# Altium footprint library IC_SMD_QUAD.PCBLIB: 135 footprints (part 7 of 9)
Each footprint in its own frame and in the unit in brackets; x right, y up, seen from the top. Pads: shape width x height; smd on the part's side, far side on the other; paste and mask are expansions set on the pad; w line width, h text height; cw(c..) or ccw(c..) is an arc to the next point about the centre after c.
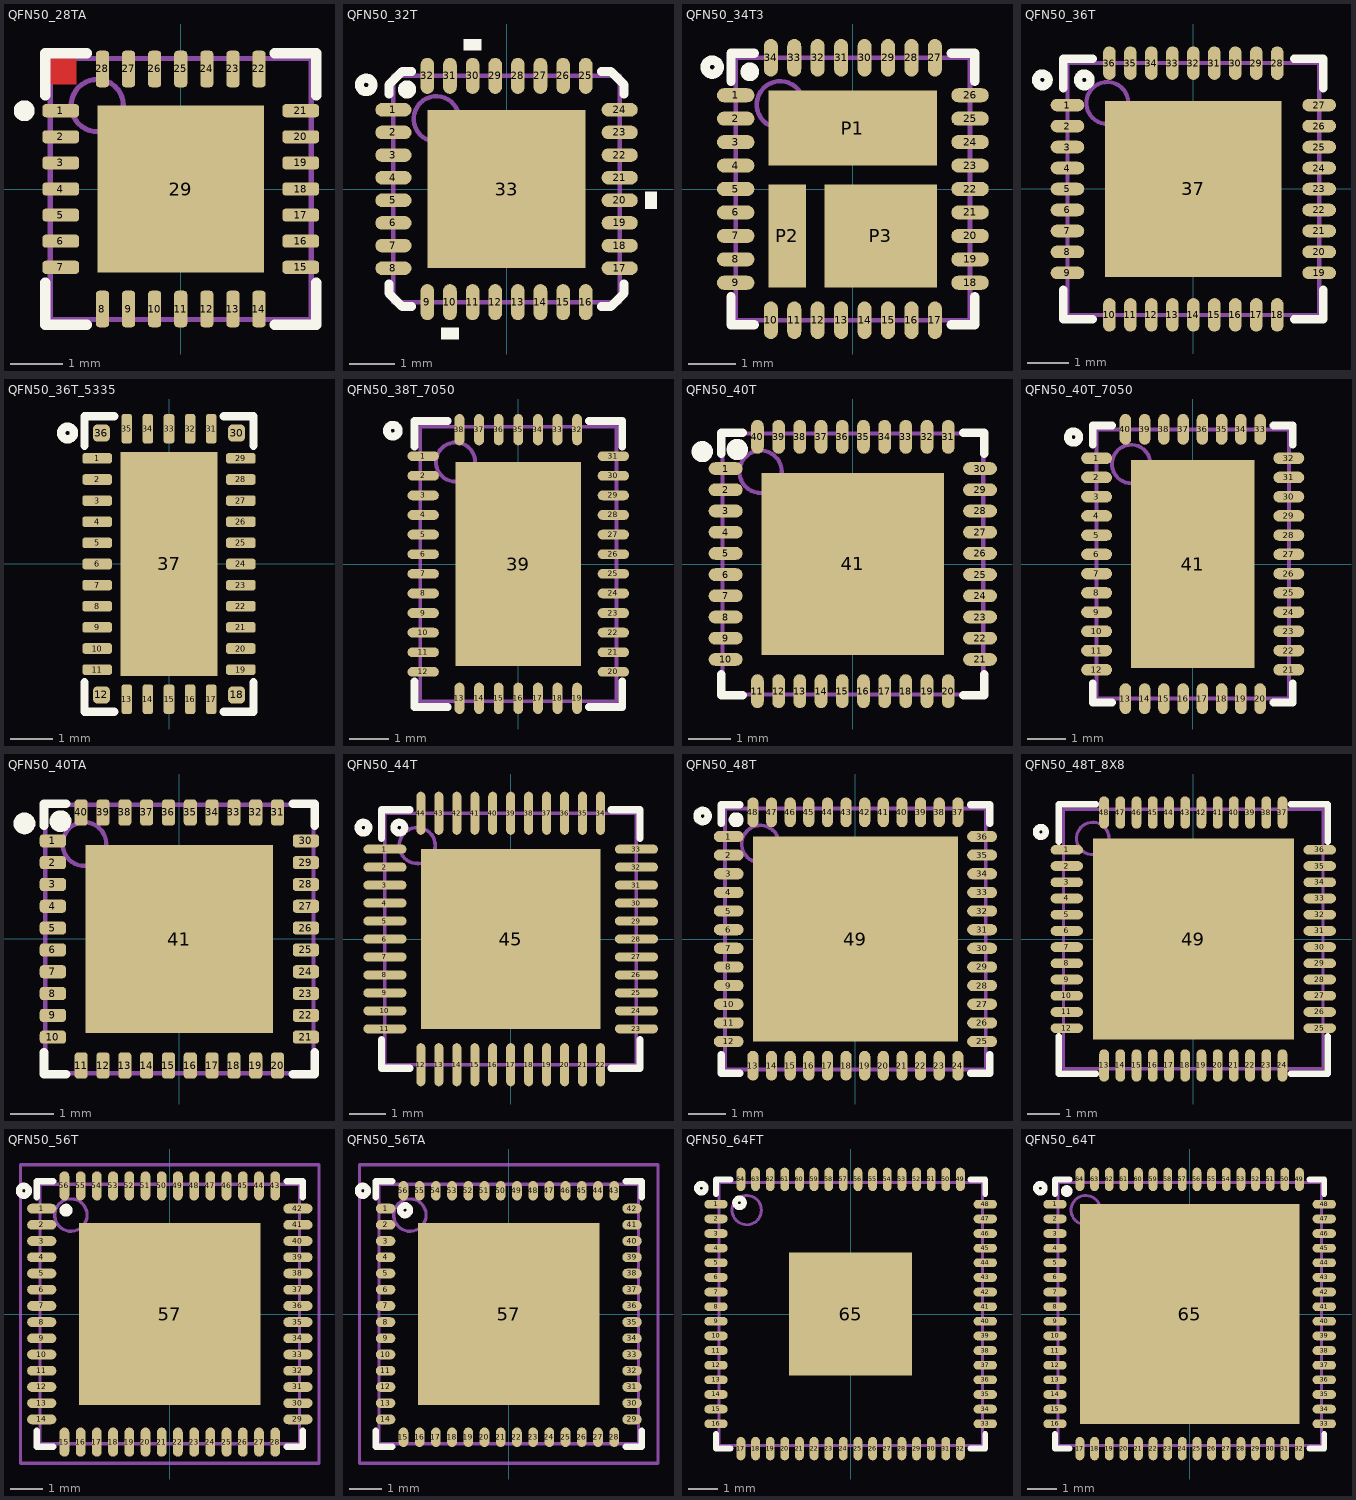
[diagram p6: the footprints below, top view; thin cyan lines are the x and y axes]

## QFN50_28TA [mm] "QFN, 28, 5X5mm, 0.5mm"
height 1
pads (29):
  rrect50% 0.7x0.25 smd mask+0.075: 1(-2.3,1.5) 2(-2.3,1) 3(-2.3,0.5) 4(-2.3,0) 5(-2.3,-0.5) 6(-2.3,-1) 7(-2.3,-1.5) 15(2.3,-1.5) 16(2.3,-1) 17(2.3,-0.5) 18(2.3,0) 19(2.3,0.5) 20(2.3,1) 21(2.3,1.5)
  rrect50% 0.25x0.7 smd mask+0.075: 8(-1.5,-2.3) 9(-1,-2.3) 10(-0.5,-2.3) 11(0,-2.3) 12(0.5,-2.3) 13(1,-2.3) 14(1.5,-2.3) 22(1.5,2.3) 23(1,2.3) 24(0.5,2.3) 25(0,2.3) 26(-0.5,2.3) 27(-1,2.3) 28(-1.5,2.3)
  rect 3.2x3.2 smd paste-3 mask+0.075: 29(0,0)
TopLayer:
  rectangle: -2.5,2 -2,2.5
TopOverlay:
  circle w0.2: c-3,1.5 r0.1
  lines w0.2: -2.6,-1.8 -2.6,-2.6 -1.8,-2.6 ; -2.6,1.8 -2.6,2.6 -1.8,2.6 ; 1.8,-2.6 2.6,-2.6 2.6,-1.8 ; 1.8,2.6 2.6,2.6 2.6,1.8
TopPaste:
  region: 1.4,-0.2 0.2,-0.2 0.2,-1.4 1.4,-1.4
  rectangle: -1.4,-1.4 -0.2,-0.2
  region: 1.4,1.4 0.2,1.4 0.2,0.2 1.4,0.2
  rectangle: -1.4,0.2 -0.2,1.4
Mechanical13:
  circle w0.1: c-1.6,1.6 r0.5
  lines w0.1: -2.5,-2.5 2.5,-2.5 2.5,2.5 -2.5,2.5 -2.5,-2.5
3D body "QFN50_28TT.step": height 1, standoff 0, extent -2.501,-2.501 2.501,2.501

## QFN50_32T [mm] "HVQFN32, UFQFPN32, QFN-32, RGJ, 5X5X0.9mm, 0.5mm"
height 0.9
pads (33):
  oval 0.8x0.3 smd mask+0.05: 1(-2.5,1.75) 2(-2.5,1.25) 3(-2.5,0.75) 4(-2.5,0.25) 5(-2.5,-0.25) 6(-2.5,-0.75) 7(-2.5,-1.25) 8(-2.5,-1.75) 17(2.5,-1.75) 18(2.5,-1.25) 19(2.5,-0.75) 20(2.5,-0.25) 21(2.5,0.25) 22(2.5,0.75) 23(2.5,1.25) 24(2.5,1.75)
  oval 0.3x0.8 smd mask+0.05: 9(-1.75,-2.5) 10(-1.25,-2.5) 11(-0.75,-2.5) 12(-0.25,-2.5) 13(0.25,-2.5) 14(0.75,-2.5) 15(1.25,-2.5) 16(1.75,-2.5) 25(1.75,2.5) 26(1.25,2.5) 27(0.75,2.5) 28(0.25,2.5) 29(-0.25,2.5) 30(-0.75,2.5) 31(-1.25,2.5) 32(-1.75,2.5)
  rect 3.5x3.5 smd paste-3 mask+0.1: 33(0,0)
TopOverlay:
  circle w0.2: c-2.2,2.2 r0.1
  circle w0.2: c-3.1,2.3 r0.15
  region: -0.56,3.061 -0.941,3.061 -0.941,3.315 -0.56,3.315
  region: 3.061,-0.059 3.315,-0.059 3.315,-0.44 3.061,-0.44
  region: -1.06,-3.061 -1.441,-3.061 -1.441,-3.315 -1.06,-3.315
  lines w0.2: -2.6,-2.1 -2.6,-2.3 -2.3,-2.6 -2.1,-2.6 ; -2.6,2.1 -2.6,2.3 -2.3,2.6 -2.1,2.6 ; 2.1,-2.6 2.3,-2.6 2.6,-2.3 2.6,-2.1 ; 2.1,2.6 2.3,2.6 2.6,2.3 2.6,2.1
TopPaste:
  rectangle: -1.6,-1.6 -0.2,-0.2
  region: 1.6,-0.2 0.2,-0.2 0.2,-1.6 1.6,-1.6
  region: 1.6,1.6 0.2,1.6 0.2,0.2 1.6,0.2
  rectangle: -1.6,0.2 -0.2,1.6
Mechanical13:
  circle w0.1: c-1.55,1.55 r0.5
  lines w0.1: -2.5,-2.5 2.5,-2.5 2.5,2.5 -2.5,2.5 -2.5,-2.5
3D body "RTV0032A.stp": height 0.8, standoff 0, extent -2.5,-2.5 2.5,2.5

## QFN50_34T3 [mm] "TinyBuck (FAIRCHILD), 34-Lead, PQFN, 5.5 mm x 5.0 mm"
height 1.1
pads (37):
  oval 0.8x0.3 smd mask+0.05: 1(-2.5,2) 2(-2.5,1.5) 3(-2.5,1) 4(-2.5,0.5) 5(-2.5,0) 6(-2.5,-0.5) 7(-2.5,-1) 8(-2.5,-1.5) 9(-2.5,-2) 18(2.5,-2) 19(2.5,-1.5) 20(2.5,-1) 21(2.5,-0.5) 22(2.5,0) 23(2.5,0.5) 24(2.5,1) 25(2.5,1.5) 26(2.5,2)
  oval 0.3x0.8 smd mask+0.05: 10(-1.75,-2.8) 11(-1.25,-2.8) 12(-0.75,-2.8) 13(-0.25,-2.8) 14(0.25,-2.8) 15(0.75,-2.8) 16(1.25,-2.8) 17(1.75,-2.8) 27(1.75,2.8) 28(1.25,2.8) 29(0.75,2.8) 30(0.25,2.8) 31(-0.25,2.8) 32(-0.75,2.8) 33(-1.25,2.8) 34(-1.75,2.8)
  rect 3.6x1.6 smd paste-3: P1(0,1.3)
  rect 0.8x2.2 smd paste-0.1: P2(-1.4,-1)
  rect 2.4x2.2 smd paste-3: P3(0.6,-1)
TopOverlay:
  circle w0.2: c-3,2.6 r0.15
  circle w0.2: c-2.2,2.5 r0.1
  lines w0.2: -2.6,-2.3 -2.6,-2.9 -2.1,-2.9 ; -2.6,2.3 -2.6,2.9 -2.1,2.9 ; 2.1,-2.9 2.6,-2.9 2.6,-2.3 ; 2.1,2.9 2.6,2.9 2.6,2.3
TopPaste:
  rectangle: -1.6,0.7 -0.2,1.9
  rectangle: 0.2,0.7 1.6,1.9
  rectangle: -0.4,-0.9 0.4,-0.1
  rectangle: 0.8,-0.9 1.6,-0.1
  region: 0.8,-1.1 0.8,-1.9 1.6,-1.9 1.6,-1.1
  region: -0.4,-1.1 -0.4,-1.9 0.4,-1.9 0.4,-1.1
Mechanical13:
  circle w0.1: c-1.55,1.8 r0.5
  lines w0.1: -2.5,-2.8 2.5,-2.8 2.5,2.8 -2.5,2.8 -2.5,-2.8
3D body: height 1.1, standoff 0, extent -2.5,-2.75 2.5,2.8

## QFN50_36T [mm] "MO-220-VJJD (JEDEC), 36 TQFN T3666+3 (MAXIM), 6X6mm, 0.5mm"
height 0.9
pads (37):
  oval 0.8x0.3 smd mask+0.05: 1(-3,2) 2(-3,1.5) 3(-3,1) 4(-3,0.5) 5(-3,0) 6(-3,-0.5) 7(-3,-1) 8(-3,-1.5) 9(-3,-2) 19(3,-2) 20(3,-1.5) 21(3,-1) 22(3,-0.5) 23(3,0) 24(3,0.5) 25(3,1) 26(3,1.5) 27(3,2)
  oval 0.3x0.8 smd mask+0.05: 10(-2,-3) 11(-1.5,-3) 12(-1,-3) 13(-0.5,-3) 14(0,-3) 15(0.5,-3) 16(1,-3) 17(1.5,-3) 18(2,-3) 28(2,3) 29(1.5,3) 30(1,3) 31(0.5,3) 32(0,3) 33(-0.5,3) 34(-1,3) 35(-1.5,3) 36(-2,3)
  rect 4.2x4.2 smd paste-3 mask+0.1: 37(0,0)
TopOverlay:
  circle w0.2: c-2.6,2.6 r0.15
  circle w0.2: c-3.6,2.6 r0.15
  lines w0.2: -3.1,-2.4 -3.1,-3.1 -2.4,-3.1 ; -3.1,2.4 -3.1,3.1 -2.4,3.1 ; 2.4,-3.1 3.1,-3.1 3.1,-2.4 ; 2.4,3.1 3.1,3.1 3.1,2.4
TopPaste:
  rectangle: -1,-1 -0.2,-0.2
  rectangle: -2,-2 -1.2,-1.2
  region: -0.2,-1.2 -1,-1.2 -1,-2 -0.2,-2
  rectangle: -2,-1 -1.2,-0.2
  region: 2,-0.2 1.2,-0.2 1.2,-1 2,-1
  rectangle: 0.2,-2 1,-1.2
  region: 2,-1.2 1.2,-1.2 1.2,-2 2,-2
  region: 1,-0.2 0.2,-0.2 0.2,-1 1,-1
  region: 1,1 0.2,1 0.2,0.2 1,0.2
  region: 2,2 1.2,2 1.2,1.2 2,1.2
  rectangle: 0.2,1.2 1,2
  region: 2,1 1.2,1 1.2,0.2 2,0.2
  rectangle: -2,0.2 -1.2,1
  region: -0.2,2 -1,2 -1,1.2 -0.2,1.2
  rectangle: -2,1.2 -1.2,2
  rectangle: -1,0.2 -0.2,1
Mechanical13:
  circle w0.1: c-2.05,2.05 r0.5
  lines w0.1: -3,-3 3,-3 3,3 -3,3 -3,-3
3D body: height 0.9, standoff 0, extent -3,-3 3,3

## QFN50_36T_5335 [mm] "QFN 36, 0.5mm pitch, 5.3X3.5X0.95mm"
height 0.95
pads (37):
  rrect50% 0.7x0.25 smd mask+0.05: 1(-1.7,2.5) 2(-1.7,2) 3(-1.7,1.5) 4(-1.7,1) 5(-1.7,0.5) 6(-1.7,0) 7(-1.7,-0.5) 8(-1.7,-1) 9(-1.7,-1.5) 10(-1.7,-2) 11(-1.7,-2.5) 19(1.7,-2.5) 20(1.7,-2) 21(1.7,-1.5) 22(1.7,-1) 23(1.7,-0.5) 24(1.7,0) 25(1.7,0.5) 26(1.7,1) 27(1.7,1.5) 28(1.7,2) 29(1.7,2.5)
  rrect50% 0.4x0.4 smd mask+0.05: 12(-1.6,-3.1) 18(1.6,-3.1) 30(1.6,3.1) 36(-1.6,3.1)
  rrect50% 0.25x0.7 smd mask+0.05: 13(-1,-3.2) 14(-0.5,-3.2) 15(0,-3.2) 16(0.5,-3.2) 17(1,-3.2) 31(1,3.2) 32(0.5,3.2) 33(0,3.2) 34(-0.5,3.2) 35(-1,3.2)
  rect 2.3x5.3 smd paste-5 mask+0.05: 37(0,0)
TopOverlay:
  circle w0.2: c-2.4,3.1 r0.15
  lines w0.2: -2,-2.8 -2,-3.5 -1.3,-3.5 ; -2,2.8 -2,3.5 -1.3,3.5 ; 1.3,-3.5 2,-3.5 2,-2.8 ; 1.3,3.5 2,3.5 2,2.8
TopPaste:
  rectangle: -1,0.2 -0.2,1.3
  rectangle: -1,1.7 -0.2,2.5
  region: 1,1.3 0.2,1.3 0.2,0.2 1,0.2
  rectangle: 0.2,1.7 1,2.5
  rectangle: 0.2,-2.5 1,-1.7
  region: 1,-0.2 0.2,-0.2 0.2,-1.3 1,-1.3
  rectangle: -1,-2.5 -0.2,-1.7
  rectangle: -1,-1.3 -0.2,-0.2
3D body "QFN50_36T_5335.step": height 0.95, standoff 0, extent -1.8,-3.3 1.8,3.3

## QFN50_38T_7050 [mm] "UHF QFN, 38-Leads, Body 5.00x7.00mm, Pitch 0.50mm"
height 0.75
pads (39):
  oval 0.8x0.25 smd mask+0.05: 1(-2.425,2.75) 2(-2.425,2.25) 3(-2.425,1.75) 4(-2.425,1.25) 5(-2.425,0.75) 6(-2.425,0.25) 7(-2.425,-0.25) 8(-2.425,-0.75) 9(-2.425,-1.25) 10(-2.425,-1.75) 11(-2.425,-2.25) 12(-2.425,-2.75) 20(2.425,-2.75) 21(2.425,-2.25) 22(2.425,-1.75) 23(2.425,-1.25) 24(2.425,-0.75) 25(2.425,-0.25) 26(2.425,0.25) 27(2.425,0.75) 28(2.425,1.25) 29(2.425,1.75) 30(2.425,2.25) 31(2.425,2.75)
  oval 0.25x0.8 smd mask+0.05: 13(-1.5,-3.425) 14(-1,-3.425) 15(-0.5,-3.425) 16(0,-3.425) 17(0.5,-3.425) 18(1,-3.425) 19(1.5,-3.425) 32(1.5,3.425) 33(1,3.425) 34(0.5,3.425) 35(0,3.425) 36(-0.5,3.425) 37(-1,3.425) 38(-1.5,3.425)
  rect 3.2x5.2 smd mask+0.075: 39(0,0)
TopOverlay:
  circle w0.2: c-3.2,3.4 r0.15
  lines w0.2: -2.65,-3 -2.65,-3.65 -1.8,-3.65 ; -2.65,3 -2.65,3.65 -1.8,3.65 ; 1.8,-3.65 2.65,-3.65 2.65,-3 ; 1.8,3.65 2.65,3.65 2.65,3
Mechanical13:
  circle w0.1: c-1.6,2.6 r0.5
  lines w0.1: -2.5,-3.5 -2.5,3.5 2.5,3.5 2.5,-3.5 -2.5,-3.5
3D body "QFN50_38T_7X5.step": height 0.75, standoff 0, extent -2.501,-3.501 2.501,3.501

## QFN50_40T [mm] "PVQFN, QFN, 40-Leads, Body 6x6mm, Pitch 0.5mm"
height 1
pads (41):
  oval 0.8x0.3 smd mask+0.05: 1(-3,2.25) 2(-3,1.75) 3(-3,1.25) 4(-3,0.75) 5(-3,0.25) 6(-3,-0.25) 7(-3,-0.75) 8(-3,-1.25) 9(-3,-1.75) 10(-3,-2.25) 21(3,-2.25) 22(3,-1.75) 23(3,-1.25) 24(3,-0.75) 25(3,-0.25) 26(3,0.25) 27(3,0.75) 28(3,1.25) 29(3,1.75) 30(3,2.25)
  oval 0.3x0.8 smd mask+0.05: 11(-2.25,-3) 12(-1.75,-3) 13(-1.25,-3) 14(-0.75,-3) 15(-0.25,-3) 16(0.25,-3) 17(0.75,-3) 18(1.25,-3) 19(1.75,-3) 20(2.25,-3) 31(2.25,3) 32(1.75,3) 33(1.25,3) 34(0.75,3) 35(0.25,3) 36(-0.25,3) 37(-0.75,3) 38(-1.25,3) 39(-1.75,3) 40(-2.25,3)
  rect 4.3x4.3 smd paste-5: 41(0,0)
TopOverlay:
  circle w0.25: c-3.55,2.65 r0.125
  circle w0.25: c-2.725,2.7 r0.125
  lines w0.2: -3.1,-2.6 -3.1,-3.1 -2.6,-3.1 ; -3.1,2.6 -3.1,3.1 -2.6,3.1 ; 2.6,-3.1 3.1,-3.1 3.1,-2.6 ; 2.6,3.1 3.1,3.1 3.1,2.6
TopPaste:
  rectangle: -2,-2 -0.2,-0.2
  region: 2,-0.2 0.2,-0.2 0.2,-2 2,-2
  region: 2,2 0.2,2 0.2,0.2 2,0.2
  rectangle: -2,0.2 -0.2,2
Mechanical13:
  circle w0.1: c-2.175,2.175 r0.5
  lines w0.1: -3.075,-3.075 3.075,-3.075 3.075,3.075 -3.075,3.075 -3.075,-3.075
Mechanical15:
  lines w0.1: -0.5,0 0.5,0 ; 0,-0.5 0,0.5
3D body "ALSRobot-QFN40 6X6.STEP": height 1.03, standoff -0.02, extent -3.075,-3.075 3.075,3.075

## QFN50_40T_7050 [mm] "RVF0040, LGFN-CLIP, 7.0X5.0X1.5mm, 0.5mm pitch"
height 1.5
pads (41):
  oval 0.8x0.3 smd mask+0.075: 1(-2.5,2.75) 2(-2.5,2.25) 3(-2.5,1.75) 4(-2.5,1.25) 5(-2.5,0.75) 6(-2.5,0.25) 7(-2.5,-0.25) 8(-2.5,-0.75) 9(-2.5,-1.25) 10(-2.5,-1.75) 11(-2.5,-2.25) 12(-2.5,-2.75) 21(2.5,-2.75) 22(2.5,-2.25) 23(2.5,-1.75) 24(2.5,-1.25) 25(2.5,-0.75) 26(2.5,-0.25) 27(2.5,0.25) 28(2.5,0.75) 29(2.5,1.25) 30(2.5,1.75) 31(2.5,2.25) 32(2.5,2.75)
  oval 0.3x0.8 smd mask+0.075: 13(-1.75,-3.5) 14(-1.25,-3.5) 15(-0.75,-3.5) 16(-0.25,-3.5) 17(0.25,-3.5) 18(0.75,-3.5) 19(1.25,-3.5) 20(1.75,-3.5) 33(1.75,3.5) 34(1.25,3.5) 35(0.75,3.5) 36(0.25,3.5) 37(-0.25,3.5) 38(-0.75,3.5) 39(-1.25,3.5) 40(-1.75,3.5)
  rect 3.2x5.4 smd paste-5: 41(0,0)
TopOverlay:
  circle w0.2: c-3.1,3.3 r0.15
  lines w0.2: -2.6,-3.1 -2.6,-3.6 -2.1,-3.6 ; -2.6,3.1 -2.6,3.6 -2.1,3.6 ; 2.1,-3.6 2.6,-3.6 2.6,-3.1 ; 2.1,3.6 2.6,3.6 2.6,3.1
TopPaste:
  rectangle: -1.4,0.2 -0.2,1.2
  rectangle: -1.4,1.5 -0.2,2.5
  region: 1.4,2.5 0.2,2.5 0.2,1.5 1.4,1.5
  region: 1.4,1.2 0.2,1.2 0.2,0.2 1.4,0.2
  region: 1.4,-0.2 0.2,-0.2 0.2,-1.2 1.4,-1.2
  region: 1.4,-1.5 0.2,-1.5 0.2,-2.5 1.4,-2.5
  rectangle: -1.4,-2.5 -0.2,-1.5
  rectangle: -1.4,-1.2 -0.2,-0.2
Mechanical13:
  circle w0.1: c-1.6,2.6 r0.5
  lines w0.1: -2.5,-3.5 -2.5,3.5 2.5,3.5 2.5,-3.5 -2.5,-3.5
3D body "QFN50_40T_7050.step": height 1.5, standoff 0, extent -2.501,-3.501 2.501,3.501

## QFN50_40TA [mm] "PVQFN, QFN, 40-Leads, Body 6x6mm, Pitch 0.5mm"
height 1
pads (41):
  rrect50% 0.6x0.3 smd mask+0.05: 1(-2.9,2.25) 2(-2.9,1.75) 3(-2.9,1.25) 4(-2.9,0.75) 5(-2.9,0.25) 6(-2.9,-0.25) 7(-2.9,-0.75) 8(-2.9,-1.25) 9(-2.9,-1.75) 10(-2.9,-2.25) 21(2.9,-2.25) 22(2.9,-1.75) 23(2.9,-1.25) 24(2.9,-0.75) 25(2.9,-0.25) 26(2.9,0.25) 27(2.9,0.75) 28(2.9,1.25) 29(2.9,1.75) 30(2.9,2.25)
  rrect50% 0.3x0.6 smd mask+0.05: 11(-2.25,-2.9) 12(-1.75,-2.9) 13(-1.25,-2.9) 14(-0.75,-2.9) 15(-0.25,-2.9) 16(0.25,-2.9) 17(0.75,-2.9) 18(1.25,-2.9) 19(1.75,-2.9) 20(2.25,-2.9) 31(2.25,2.9) 32(1.75,2.9) 33(1.25,2.9) 34(0.75,2.9) 35(0.25,2.9) 36(-0.25,2.9) 37(-0.75,2.9) 38(-1.25,2.9) 39(-1.75,2.9) 40(-2.25,2.9)
  rect 4.3x4.3 smd paste-3: 41(0,0)
TopOverlay:
  circle w0.25: c-3.55,2.65 r0.125
  circle w0.25: c-2.725,2.7 r0.125
  lines w0.2: -3.1,-2.6 -3.1,-3.1 -2.6,-3.1 ; -3.1,2.6 -3.1,3.1 -2.6,3.1 ; 2.6,-3.1 3.1,-3.1 3.1,-2.6 ; 2.6,3.1 3.1,3.1 3.1,2.6
TopPaste:
  rectangle: -2,0.2 -0.2,2
  region: 2,2 0.2,2 0.2,0.2 2,0.2
  rectangle: -2,-2 -0.2,-0.2
  region: 2,-0.2 0.2,-0.2 0.2,-2 2,-2
Mechanical13:
  circle w0.1: c-2.175,2.175 r0.5
  lines w0.1: -3.075,-3.075 -3.075,3.075 3.075,3.075 3.075,-3.075 -3.075,-3.075
Mechanical15:
  lines w0.1: -0.5,0 0.5,0 ; 0,-0.5 0,0.5
3D body "ALSRobot-QFN40 6X6.STEP": height 1.03, standoff -0.02, extent -3.075,-3.075 3.075,3.075

## QFN50_44T [mm] "QFN-44, 44ML, pitch:0.5mm, 7x7x1mm"
height 1
pads (45):
  oval 1.2x0.25 smd mask+0.05: 1(-3.5,2.5) 2(-3.5,2) 3(-3.5,1.5) 4(-3.5,1) 5(-3.5,0.5) 6(-3.5,0) 7(-3.5,-0.5) 8(-3.5,-1) 9(-3.5,-1.5) 10(-3.5,-2) 11(-3.5,-2.5) 23(3.5,-2.5) 24(3.5,-2) 25(3.5,-1.5) 26(3.5,-1) 27(3.5,-0.5) 28(3.5,0) 29(3.5,0.5) 30(3.5,1) 31(3.5,1.5) 32(3.5,2) 33(3.5,2.5)
  oval 0.25x1.2 smd mask+0.05: 12(-2.5,-3.5) 13(-2,-3.5) 14(-1.5,-3.5) 15(-1,-3.5) 16(-0.5,-3.5) 17(0,-3.5) 18(0.5,-3.5) 19(1,-3.5) 20(1.5,-3.5) 21(2,-3.5) 22(2.5,-3.5) 34(2.5,3.5) 35(2,3.5) 36(1.5,3.5) 37(1,3.5) 38(0.5,3.5) 39(0,3.5) 40(-0.5,3.5) 41(-1,3.5) 42(-1.5,3.5) 43(-2,3.5) 44(-2.5,3.5)
  rect 5x5 smd paste-5: 45(0,0)
TopOverlay:
  circle w0.2: c-3.1,3.1 r0.15
  circle w0.2: c-4.1,3.1 r0.15
  lines w0.2: -3.6,-2.8 -3.6,-3.6 -2.8,-3.6 ; -3.6,2.8 -3.6,3.6 -2.8,3.6 ; 2.8,-3.6 3.6,-3.6 3.6,-2.8 ; 2.8,3.6 3.6,3.6 3.6,2.8
TopPaste:
  rectangle: -1.2,-1.2 -0.2,-0.2
  rectangle: -2.4,-2.4 -1.4,-1.4
  region: -2.4,-0.2 -2.4,-1.2 -1.4,-1.2 -1.4,-0.2
  region: -1.2,-1.4 -1.2,-2.4 -0.2,-2.4 -0.2,-1.4
  region: 0.2,-1.4 0.2,-2.4 1.2,-2.4 1.2,-1.4
  region: 1.4,-0.2 1.4,-1.2 2.4,-1.2 2.4,-0.2
  region: 2.4,-1.4 1.4,-1.4 1.4,-2.4 2.4,-2.4
  region: 1.2,-0.2 0.2,-0.2 0.2,-1.2 1.2,-1.2
  region: 1.2,1.2 0.2,1.2 0.2,0.2 1.2,0.2
  region: 2.4,2.4 1.4,2.4 1.4,1.4 2.4,1.4
  region: 2.4,0.2 2.4,1.2 1.4,1.2 1.4,0.2
  region: 1.2,1.4 1.2,2.4 0.2,2.4 0.2,1.4
  region: -0.2,1.4 -0.2,2.4 -1.2,2.4 -1.2,1.4
  region: -1.4,0.2 -1.4,1.2 -2.4,1.2 -2.4,0.2
  rectangle: -2.4,1.4 -1.4,2.4
  rectangle: -1.2,0.2 -0.2,1.2
Mechanical13:
  circle w0.1: c-2.6,2.6 r0.5
  lines w0.1: -3.5,-3.5 3.5,-3.5 3.5,3.5 -3.5,3.5 -3.5,-3.5
3D body "QFN50_44T.step": height 1, standoff 0, extent -3.501,-3.501 3.501,3.501

## QFN50_48T [mm] "CP-48, UFQFPN48, RGZ S-PQFP-N48, S-PWQFN-N48, MO-220-VKKD-2(JEDEC), 7X7mm, 0.5mm"
height 1
pads (49):
  oval 0.8x0.3 smd mask+0.05: 1(-3.4,2.75) 2(-3.4,2.25) 3(-3.4,1.75) 4(-3.4,1.25) 5(-3.4,0.75) 6(-3.4,0.25) 7(-3.4,-0.25) 8(-3.4,-0.75) 9(-3.4,-1.25) 10(-3.4,-1.75) 11(-3.4,-2.25) 12(-3.4,-2.75) 25(3.4,-2.75) 26(3.4,-2.25) 27(3.4,-1.75) 28(3.4,-1.25) 29(3.4,-0.75) 30(3.4,-0.25) 31(3.4,0.25) 32(3.4,0.75) 33(3.4,1.25) 34(3.4,1.75) 35(3.4,2.25) 36(3.4,2.75)
  oval 0.3x0.8 smd mask+0.05: 13(-2.75,-3.4) 14(-2.25,-3.4) 15(-1.75,-3.4) 16(-1.25,-3.4) 17(-0.75,-3.4) 18(-0.25,-3.4) 19(0.25,-3.4) 20(0.75,-3.4) 21(1.25,-3.4) 22(1.75,-3.4) 23(2.25,-3.4) 24(2.75,-3.4) 37(2.75,3.4) 38(2.25,3.4) 39(1.75,3.4) 40(1.25,3.4) 41(0.75,3.4) 42(0.25,3.4) 43(-0.25,3.4) 44(-0.75,3.4) 45(-1.25,3.4) 46(-1.75,3.4) 47(-2.25,3.4) 48(-2.75,3.4)
  rect 5.5x5.5 smd paste-4 mask+0.075: 49(0,0)
TopOverlay:
  circle w0.2: c-3.2,3.2 r0.1
  circle w0.2: c-4.1,3.3 r0.15
  lines w0.2: -3.6,-3.1 -3.6,-3.6 -3.1,-3.6 ; -3.6,3.1 -3.6,3.6 -3.1,3.6 ; 3.1,-3.6 3.6,-3.6 3.6,-3.1 ; 3.1,3.6 3.6,3.6 3.6,3.1
TopPaste:
  rectangle: 0.2,0.2 1.2,1.2
  rectangle: 1.6,0.2 2.5,1.2
  region: 1.2,1.6 1.2,2.5 0.2,2.5 0.2,1.6
  region: 2.5,1.6 2.5,2.5 1.6,2.5 1.6,1.6
  region: -1.6,1.6 -1.6,2.5 -2.5,2.5 -2.5,1.6
  region: -0.2,1.6 -0.2,2.5 -1.2,2.5 -1.2,1.6
  region: -1.6,1.2 -2.5,1.2 -2.5,0.2 -1.6,0.2
  region: -0.2,1.2 -1.2,1.2 -1.2,0.2 -0.2,0.2
  region: -0.2,-0.2 -1.2,-0.2 -1.2,-1.2 -0.2,-1.2
  region: -1.6,-0.2 -2.5,-0.2 -2.5,-1.2 -1.6,-1.2
  region: -1.2,-1.6 -1.2,-2.5 -0.2,-2.5 -0.2,-1.6
  region: -2.5,-1.6 -2.5,-2.5 -1.6,-2.5 -1.6,-1.6
  region: 1.6,-1.6 1.6,-2.5 2.5,-2.5 2.5,-1.6
  region: 0.2,-1.6 0.2,-2.5 1.2,-2.5 1.2,-1.6
  rectangle: 1.6,-1.2 2.5,-0.2
  rectangle: 0.2,-1.2 1.2,-0.2
Mechanical13:
  circle w0.1: c-2.55,2.55 r0.5
  lines w0.1: -3.5,-3.5 -3.5,3.5 3.5,3.5 3.5,-3.5 -3.5,-3.5
3D body "RTC0048A.stp": height 0.85, standoff 0, extent -3.5,-3.5 3.5,3.5

## QFN50_48T_8X8 [mm] "QFN-48 pitch:0.5mm, 8X8mm, FT232HQ"
height 1
pads (49):
  oval 1x0.3 smd mask+0.05: 1(-3.9,2.75) 2(-3.9,2.25) 3(-3.9,1.75) 4(-3.9,1.25) 5(-3.9,0.75) 6(-3.9,0.25) 7(-3.9,-0.25) 8(-3.9,-0.75) 9(-3.9,-1.25) 10(-3.9,-1.75) 11(-3.9,-2.25) 12(-3.9,-2.75) 25(3.9,-2.75) 26(3.9,-2.25) 27(3.9,-1.75) 28(3.9,-1.25) 29(3.9,-0.75) 30(3.9,-0.25) 31(3.9,0.25) 32(3.9,0.75) 33(3.9,1.25) 34(3.9,1.75) 35(3.9,2.25) 36(3.9,2.75)
  oval 0.3x1 smd mask+0.05: 13(-2.75,-3.9) 14(-2.25,-3.9) 15(-1.75,-3.9) 16(-1.25,-3.9) 17(-0.75,-3.9) 18(-0.25,-3.9) 19(0.25,-3.9) 20(0.75,-3.9) 21(1.25,-3.9) 22(1.75,-3.9) 23(2.25,-3.9) 24(2.75,-3.9) 37(2.75,3.9) 38(2.25,3.9) 39(1.75,3.9) 40(1.25,3.9) 41(0.75,3.9) 42(0.25,3.9) 43(-0.25,3.9) 44(-0.75,3.9) 45(-1.25,3.9) 46(-1.75,3.9) 47(-2.25,3.9) 48(-2.75,3.9)
  rect 6.2x6.2 smd paste-5: 49(0,0)
TopOverlay:
  circle w0.2: c-4.7,3.3 r0.15
  lines w0.2: -4.15,-3 -4.15,-4.15 -3,-4.15 ; -4.15,3 -4.15,4.15 -3,4.15 ; 3,-4.15 4.15,-4.15 4.15,-3 ; 3,4.15 4.15,4.15 4.15,3
TopPaste:
  rectangle: -3,-1.4 -1.8,-0.2
  region: -0.2,-1.8 -1.4,-1.8 -1.4,-3 -0.2,-3
  region: -1.4,-0.2 -1.4,-1.4 -0.2,-1.4 -0.2,-0.2
  region: -1.8,-3 -1.8,-1.8 -3,-1.8 -3,-3
  region: 1.8,-0.2 1.8,-1.4 3,-1.4 3,-0.2
  region: 1.4,-3 1.4,-1.8 0.2,-1.8 0.2,-3
  region: 3,1.4 1.8,1.4 1.8,0.2 3,0.2
  rectangle: 0.2,1.8 1.4,3
  region: -1.8,0.2 -1.8,1.4 -3,1.4 -3,0.2
  region: -1.4,3 -1.4,1.8 -0.2,1.8 -0.2,3
  region: 1.4,-0.2 0.2,-0.2 0.2,-1.4 1.4,-1.4
  region: 3,-1.8 1.8,-1.8 1.8,-3 3,-3
  region: 1.4,1.4 0.2,1.4 0.2,0.2 1.4,0.2
  region: 3,3 1.8,3 1.8,1.8 3,1.8
  rectangle: -3,1.8 -1.8,3
  rectangle: -1.4,0.2 -0.2,1.4
Mechanical13:
  circle w0.1: c-3.1,3.1 r0.5
  lines w0.1: -4,-4 -4,4 4,4 4,-4 -4,-4
3D body "QFN50_48T_8X8.step": height 1, standoff 0, extent -4.001,-4.001 4.001,4.001

## QFN50_56T [mm] "QFN56, pitch: 0.5mm, 8x8mm"
height 1
pads (57):
  oval 0.9x0.3 smd mask+0.05: 1(-3.95,3.25) 2(-3.95,2.75) 3(-3.95,2.25) 4(-3.95,1.75) 5(-3.95,1.25) 6(-3.95,0.75) 7(-3.95,0.25) 8(-3.95,-0.25) 9(-3.95,-0.75) 10(-3.95,-1.25) 11(-3.95,-1.75) 12(-3.95,-2.25) 13(-3.95,-2.75) 14(-3.95,-3.25) 29(3.95,-3.25) 30(3.95,-2.75) 31(3.95,-2.25) 32(3.95,-1.75) 33(3.95,-1.25) 34(3.95,-0.75) 35(3.95,-0.25) 36(3.95,0.25) 37(3.95,0.75) 38(3.95,1.25) 39(3.95,1.75) 40(3.95,2.25) 41(3.95,2.75) 42(3.95,3.25)
  oval 0.3x0.9 smd mask+0.05: 15(-3.25,-3.95) 16(-2.75,-3.95) 17(-2.25,-3.95) 18(-1.75,-3.95) 19(-1.25,-3.95) 20(-0.75,-3.95) 21(-0.25,-3.95) 22(0.25,-3.95) 23(0.75,-3.95) 24(1.25,-3.95) 25(1.75,-3.95) 26(2.25,-3.95) 27(2.75,-3.95) 28(3.25,-3.95) 43(3.25,3.95) 44(2.75,3.95) 45(2.25,3.95) 46(1.75,3.95) 47(1.25,3.95) 48(0.75,3.95) 49(0.25,3.95) 50(-0.25,3.95) 51(-0.75,3.95) 52(-1.25,3.95) 53(-1.75,3.95) 54(-2.25,3.95) 55(-2.75,3.95) 56(-3.25,3.95)
  rect 5.6x5.6 smd paste-4 mask+0.1: 57(0,0)
TopOverlay:
  circle w0.2: c-3.2,3.2 r0.1
  circle w0.2: c-4.5,3.8 r0.15
  lines w0.2: -4.1,-3.6 -4.1,-4.1 -3.6,-4.1 ; -4.1,3.6 -4.1,4.1 -3.6,4.1 ; 3.6,-4.1 4.1,-4.1 4.1,-3.6 ; 3.6,4.1 4.1,4.1 4.1,3.6
TopPaste:
  rectangle: 0.2,-1.2 1.2,-0.2
  rectangle: 1.6,-1.2 2.6,-0.2
  region: 0.2,-1.6 0.2,-2.6 1.2,-2.6 1.2,-1.6
  region: 1.6,-1.6 1.6,-2.6 2.6,-2.6 2.6,-1.6
  region: -2.6,-1.6 -2.6,-2.6 -1.6,-2.6 -1.6,-1.6
  region: -1.2,-1.6 -1.2,-2.6 -0.2,-2.6 -0.2,-1.6
  region: -1.6,-0.2 -2.6,-0.2 -2.6,-1.2 -1.6,-1.2
  region: -0.2,-0.2 -1.2,-0.2 -1.2,-1.2 -0.2,-1.2
  region: -0.2,1.2 -1.2,1.2 -1.2,0.2 -0.2,0.2
  region: -1.6,1.2 -2.6,1.2 -2.6,0.2 -1.6,0.2
  region: -0.2,1.6 -0.2,2.6 -1.2,2.6 -1.2,1.6
  region: -1.6,1.6 -1.6,2.6 -2.6,2.6 -2.6,1.6
  region: 2.6,1.6 2.6,2.6 1.6,2.6 1.6,1.6
  region: 1.2,1.6 1.2,2.6 0.2,2.6 0.2,1.6
  rectangle: 1.6,0.2 2.6,1.2
  rectangle: 0.2,0.2 1.2,1.2
TopSolder:
  drawing of 25 lines, arcs and shapes, not listed
Mechanical13:
  circle w0.1: c-3.05,3.05 r0.5
  lines w0.1: -4,-4 4,-4 4,4 -4,4 -4,-4
Mechanical15:
  lines w0.1: -0.5,0 0.5,0 ; 0,-0.5 0,0.5 ; -4.6,-4.6 4.6,-4.6 4.6,4.6 -4.6,4.6 -4.6,-4.6
3D body "User Library-QFN56 (8x8).step": height 0.95, standoff 0, extent -4.015,-4.015 4.015,4.015

## QFN50_56TA [mm] "QFN56, pitch: 0.5mm, 8x8mm"
height 1
pads (57):
  oval 0.6x0.3 smd mask+0.05: 1(-3.8,3.25) 2(-3.8,2.75) 3(-3.8,2.25) 4(-3.8,1.75) 5(-3.8,1.25) 6(-3.8,0.75) 7(-3.8,0.25) 8(-3.8,-0.25) 9(-3.8,-0.75) 10(-3.8,-1.25) 11(-3.8,-1.75) 12(-3.8,-2.25) 13(-3.8,-2.75) 14(-3.8,-3.25) 29(3.8,-3.25) 30(3.8,-2.75) 31(3.8,-2.25) 32(3.8,-1.75) 33(3.8,-1.25) 34(3.8,-0.75) 35(3.8,-0.25) 36(3.8,0.25) 37(3.8,0.75) 38(3.8,1.25) 39(3.8,1.75) 40(3.8,2.25) 41(3.8,2.75) 42(3.8,3.25)
  oval 0.3x0.6 smd mask+0.05: 15(-3.25,-3.8) 16(-2.75,-3.8) 17(-2.25,-3.8) 18(-1.75,-3.8) 19(-1.25,-3.8) 20(-0.75,-3.8) 21(-0.25,-3.8) 22(0.25,-3.8) 23(0.75,-3.8) 24(1.25,-3.8) 25(1.75,-3.8) 26(2.25,-3.8) 27(2.75,-3.8) 28(3.25,-3.8) 43(3.25,3.8) 44(2.75,3.8) 45(2.25,3.8) 46(1.75,3.8) 47(1.25,3.8) 48(0.75,3.8) 49(0.25,3.8) 50(-0.25,3.8) 51(-0.75,3.8) 52(-1.25,3.8) 53(-1.75,3.8) 54(-2.25,3.8) 55(-2.75,3.8) 56(-3.25,3.8)
  rect 5.6x5.6 smd paste-5 mask+0.1: 57(0,0)
TopOverlay:
  circle w0.2: c-3.2,3.2 r0.15
  circle w0.2: c-4.5,3.8 r0.15
  lines w0.2: -4.1,-3.6 -4.1,-4.1 -3.6,-4.1 ; -4.1,3.6 -4.1,4.1 -3.6,4.1 ; 3.6,-4.1 4.1,-4.1 4.1,-3.6 ; 3.6,4.1 4.1,4.1 4.1,3.6
TopPaste:
  rectangle: 0.2,-1.2 1.2,-0.2
  rectangle: 1.6,-1.2 2.6,-0.2
  region: 0.2,-1.6 0.2,-2.6 1.2,-2.6 1.2,-1.6
  region: 1.6,-1.6 1.6,-2.6 2.6,-2.6 2.6,-1.6
  region: -2.6,-1.6 -2.6,-2.6 -1.6,-2.6 -1.6,-1.6
  region: -1.2,-1.6 -1.2,-2.6 -0.2,-2.6 -0.2,-1.6
  region: -1.6,-0.2 -2.6,-0.2 -2.6,-1.2 -1.6,-1.2
  region: -0.2,-0.2 -1.2,-0.2 -1.2,-1.2 -0.2,-1.2
  region: -0.2,1.2 -1.2,1.2 -1.2,0.2 -0.2,0.2
  region: -1.6,1.2 -2.6,1.2 -2.6,0.2 -1.6,0.2
  region: -0.2,1.6 -0.2,2.6 -1.2,2.6 -1.2,1.6
  region: -1.6,1.6 -1.6,2.6 -2.6,2.6 -2.6,1.6
  region: 2.6,1.6 2.6,2.6 1.6,2.6 1.6,1.6
  region: 1.2,1.6 1.2,2.6 0.2,2.6 0.2,1.6
  rectangle: 1.6,0.2 2.6,1.2
  rectangle: 0.2,0.2 1.2,1.2
TopSolder:
  drawing of 25 lines, arcs and shapes, not listed
Mechanical13:
  circle w0.1: c-3.05,3.05 r0.5
  lines w0.1: -4,-4 4,-4 4,4 -4,4 -4,-4
Mechanical15:
  lines w0.1: -0.5,0 0.5,0 ; 0,-0.5 0,0.5 ; -4.6,-4.6 4.6,-4.6 4.6,4.6 -4.6,4.6 -4.6,-4.6
3D body "User Library-QFN56 (8x8).step": height 0.95, standoff 0, extent -4.015,-4.015 4.015,4.015

## QFN50_64FT [mm] "FT2232HQ"
height 1
pads (65):
  oval 0.8x0.3 smd mask+0.075: 1(-4.6,3.75) 2(-4.6,3.25) 3(-4.6,2.75) 4(-4.6,2.25) 5(-4.6,1.75) 6(-4.6,1.25) 7(-4.6,0.75) 8(-4.6,0.25) 9(-4.6,-0.25) 10(-4.6,-0.75) 11(-4.6,-1.25) 12(-4.6,-1.75) 13(-4.6,-2.25) 14(-4.6,-2.75) 15(-4.6,-3.25) 16(-4.6,-3.75) 33(4.6,-3.75) 34(4.6,-3.25) 35(4.6,-2.75) 36(4.6,-2.25) 37(4.6,-1.75) 38(4.6,-1.25) 39(4.6,-0.75) 40(4.6,-0.25) 41(4.6,0.25) 42(4.6,0.75) 43(4.6,1.25) 44(4.6,1.75) 45(4.6,2.25) 46(4.6,2.75) 47(4.6,3.25) 48(4.6,3.75)
  oval 0.3x0.8 smd mask+0.075: 17(-3.75,-4.6) 18(-3.25,-4.6) 19(-2.75,-4.6) 20(-2.25,-4.6) 21(-1.75,-4.6) 22(-1.25,-4.6) 23(-0.75,-4.6) 24(-0.25,-4.6) 25(0.25,-4.6) 26(0.75,-4.6) 27(1.25,-4.6) 28(1.75,-4.6) 29(2.25,-4.6) 30(2.75,-4.6) 31(3.25,-4.6) 32(3.75,-4.6) 49(3.75,4.6) 50(3.25,4.6) 51(2.75,4.6) 52(2.25,4.6) 53(1.75,4.6) 54(1.25,4.6) 55(0.75,4.6) 56(0.25,4.6) 57(-0.25,4.6) 58(-0.75,4.6) 59(-1.25,4.6) 60(-1.75,4.6) 61(-2.25,4.6) 62(-2.75,4.6) 63(-3.25,4.6) 64(-3.75,4.6)
  rect 4.2x4.2 smd paste-5 mask+0.1: 65(0,0)
TopOverlay:
  circle w0.2: c-3.8,3.8 r0.15
  circle w0.2: c-5.1,4.3 r0.15
  lines w0.2: -4.6,-4.1 -4.6,-4.6 -4.1,-4.6 ; -4.6,4.1 -4.6,4.6 -4.1,4.6 ; 4.1,-4.6 4.6,-4.6 4.6,-4.1 ; 4.1,4.6 4.6,4.6 4.6,4.1
TopPaste:
  rectangle: -1.9,-1.9 -0.2,-0.2
  region: 1.9,-0.2 0.2,-0.2 0.2,-1.9 1.9,-1.9
  region: 1.9,1.9 0.2,1.9 0.2,0.2 1.9,0.2
  rectangle: -1.9,0.2 -0.2,1.9
Mechanical13:
  circle w0.1: c-3.55,3.55 r0.5
  lines w0.1: -4.5,-4.5 4.5,-4.5 4.5,4.5 -4.5,4.5 -4.5,-4.5
3D body: height 1, standoff 0.01, extent -4.5,-4.5 4.5,4.5

## QFN50_64T [mm] "LFCSP_VQ, MO-220-VMMD-4, MO-220-WNJR-5(JEDEC), RGC S-PQFP-N64 (TI), 9X9mm, 0.5mm"
height 1
pads (65):
  oval 0.8x0.3 smd mask+0.05: 1(-4.6,3.75) 2(-4.6,3.25) 3(-4.6,2.75) 4(-4.6,2.25) 5(-4.6,1.75) 6(-4.6,1.25) 7(-4.6,0.75) 8(-4.6,0.25) 9(-4.6,-0.25) 10(-4.6,-0.75) 11(-4.6,-1.25) 12(-4.6,-1.75) 13(-4.6,-2.25) 14(-4.6,-2.75) 15(-4.6,-3.25) 16(-4.6,-3.75) 33(4.6,-3.75) 34(4.6,-3.25) 35(4.6,-2.75) 36(4.6,-2.25) 37(4.6,-1.75) 38(4.6,-1.25) 39(4.6,-0.75) 40(4.6,-0.25) 41(4.6,0.25) 42(4.6,0.75) 43(4.6,1.25) 44(4.6,1.75) 45(4.6,2.25) 46(4.6,2.75) 47(4.6,3.25) 48(4.6,3.75)
  oval 0.3x0.8 smd mask+0.05: 17(-3.75,-4.6) 18(-3.25,-4.6) 19(-2.75,-4.6) 20(-2.25,-4.6) 21(-1.75,-4.6) 22(-1.25,-4.6) 23(-0.75,-4.6) 24(-0.25,-4.6) 25(0.25,-4.6) 26(0.75,-4.6) 27(1.25,-4.6) 28(1.75,-4.6) 29(2.25,-4.6) 30(2.75,-4.6) 31(3.25,-4.6) 32(3.75,-4.6) 49(3.75,4.6) 50(3.25,4.6) 51(2.75,4.6) 52(2.25,4.6) 53(1.75,4.6) 54(1.25,4.6) 55(0.75,4.6) 56(0.25,4.6) 57(-0.25,4.6) 58(-0.75,4.6) 59(-1.25,4.6) 60(-1.75,4.6) 61(-2.25,4.6) 62(-2.75,4.6) 63(-3.25,4.6) 64(-3.75,4.6)
  rect 7.5x7.5 smd paste-7 mask+0.1: 65(0,0)
TopOverlay:
  circle w0.2: c-5.1,4.3 r0.15
  circle w0.2: c-4.2,4.2 r0.1
  lines w0.2: -4.6,-4.1 -4.6,-4.6 -4.1,-4.6 ; -4.6,4.1 -4.6,4.6 -4.1,4.6 ; 4.1,-4.6 4.6,-4.6 4.6,-4.1 ; 4.1,4.6 4.6,4.6 4.6,4.1
TopPaste:
  rectangle: -1.6,0.2 -0.2,1.6
  rectangle: -3.4,2 -2,3.4
  rectangle: -1.6,2 -0.2,3.4
  region: -2,0.2 -2,1.6 -3.4,1.6 -3.4,0.2
  region: 3.4,0.2 3.4,1.6 2,1.6 2,0.2
  region: 1.6,3.4 0.2,3.4 0.2,2 1.6,2
  region: 3.4,3.4 2,3.4 2,2 3.4,2
  region: 1.6,1.6 0.2,1.6 0.2,0.2 1.6,0.2
  region: 1.6,-0.2 0.2,-0.2 0.2,-1.6 1.6,-1.6
  region: 3.4,-2 2,-2 2,-3.4 3.4,-3.4
  region: 1.6,-2 0.2,-2 0.2,-3.4 1.6,-3.4
  region: 2,-0.2 2,-1.6 3.4,-1.6 3.4,-0.2
  region: -3.4,-0.2 -3.4,-1.6 -2,-1.6 -2,-0.2
  rectangle: -1.6,-3.4 -0.2,-2
  rectangle: -3.4,-3.4 -2,-2
  rectangle: -1.6,-1.6 -0.2,-0.2
TopSolder:
  drawing of 25 lines, arcs and shapes, not listed
Mechanical13:
  circle w0.1: c-3.55,3.55 r0.5
  lines w0.1: -4.5,-4.5 -4.5,4.5 4.5,4.5 4.5,-4.5 -4.5,-4.5
3D body: height 1, standoff 0.01, extent -4.5,-4.5 4.5,4.5